# Altium schematic symbol library TMCS1100A1QDRQ1.Schlib: 1 symbol
Pins are listed as number, name and electrical type; pins without a type are passive.

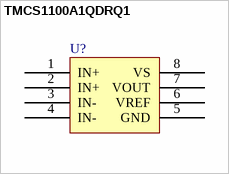
[diagram p0: symbol TMCS1100A1QDRQ1]

## TMCS1100A1QDRQ1
designator U?
Hall-Effect Current Sensor With ±600-V  5V, 30A, 8-Pin SOIC8
pins: 1 IN+, 2 IN+, 3 IN-, 4 IN-, 5 GND, 6 VREF, 7 VOUT, 8 VS